# Altium schematic symbol library E2S_E2S_033_11_03_21_CAP.SchLib: 1 symbol
Pins are listed as number, name and electrical type; pins without a type are passive.

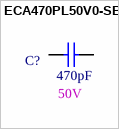
[diagram p0: symbol ECA470PL50V0-SB]

## ECA470PL50V0-SB
designator C?, comment value 470pF  1st Auxiliary Field: 50V  (hidden comment: CAP CER 470PF 50V X7R 0402)
Manufacturer: Yageo; Vendor Part Number: 311-1028-1-ND; Manufacturer Part Number: CC0402KRX7R9BB471; Internal Part Number: ECA470PL50V0-SB; Vendor Name: Digi-Key; 3rd Auxiliary Field: ROHS3 Compliant; Component Height (mm): 0.55mm; Part Type: CAP CER 470PF 50V X7R 0402; 4th Auxiliary Field: *; Temp Co: X7R; 2nd Auxiliary Field: 470pF
footprint SMDC0402
pins: 1, 2